# Altium footprint library Diode SOD-123F.PcbLib: 1 footprints
Each footprint in its own frame and in the unit in brackets; x right, y up, seen from the top. Pads: shape width x height; smd on the part's side, far side on the other; paste and mask are expansions set on the pad; w line width, h text height; cw(c..) or ccw(c..) is an arc to the next point about the centre after c.
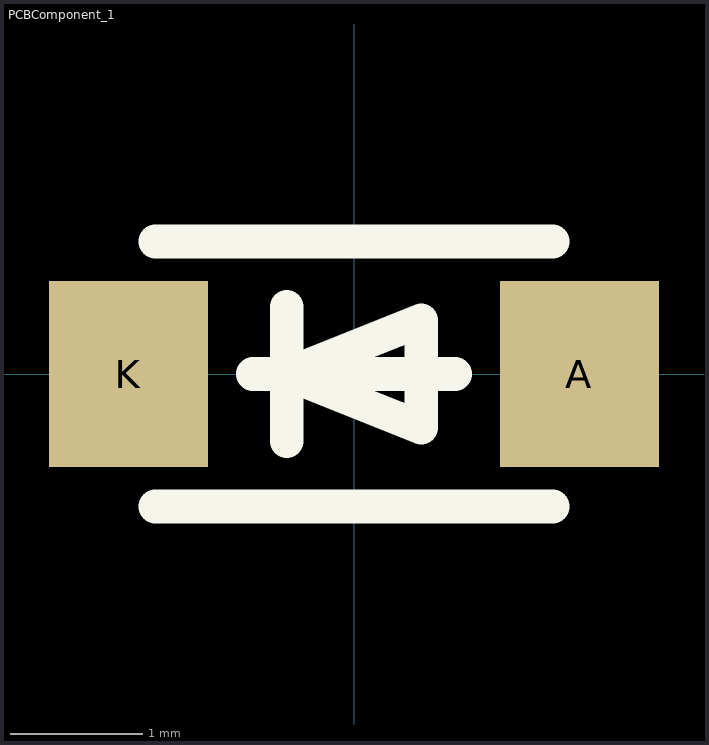
[diagram p0: the footprint, top view; thin cyan lines are the x and y axes]

## PCBComponent_1 [mm]
pads (2):
  rect 1.2x1.4 smd: A(1.7,0) K(-1.7,0)
Top Overlay:
  lines w0.254: -1.5,-1 1.5,-1 ; -1.5,1 1.5,1 ; -0.762,0 0.762,0 ; -0.508,-0.508 -0.508,0.508 ; -0.508,0 0.508,0.406 0.508,-0.406 -0.508,0
Mechanical 15:
  lines w0.003: -0.025,0.268 0.025,0.319
3D body "CircuitWorks-SOD123 (1).step": height 1.27, standoff 0, extent -1.85,-0.8 1.85,0.8